# Altium schematic symbol library IRU1010-18.SchLib: 1 symbol
Pins are listed as number, name and electrical type; pins without a type are passive.

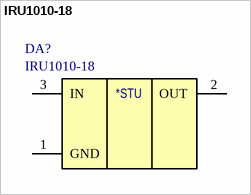
[diagram p0: symbol IRU1010-18]

## IRU1010-18
designator DA?
LDO Linear stabilization; Supplier 1: Digi-Key; Supplier Part Number 1: IRU1010-18CY-ND
pins: 1 GND (power), 2 OUT (power), 3 IN (power)
text: *STU